# Altium footprint library bluetooth1.PcbLib: 1 footprints
Each footprint in its own frame and in the unit in brackets; x right, y up, seen from the top. Pads: shape width x height; smd on the part's side, far side on the other; paste and mask are expansions set on the pad; w line width, h text height; cw(c..) or ccw(c..) is an arc to the next point about the centre after c.
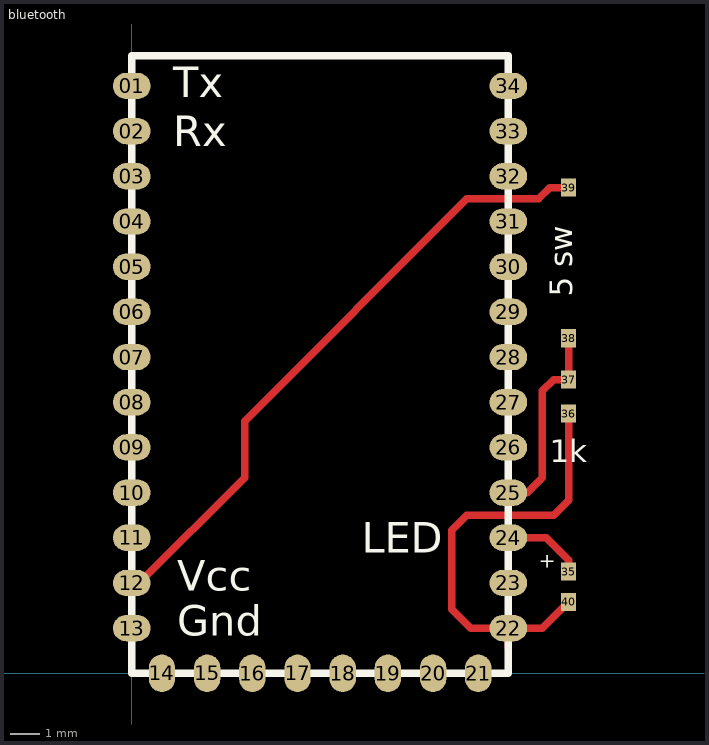
[diagram p0: the footprint, top view; thin cyan lines are the x and y axes]

## bluetooth [mil]
pads (40):
  oval 50x35 smd: 01(0,780) 02(0,720) 03(0,660) 04(0,600) 05(0,540) 06(0,480) 07(0,420) 08(0,360) 09(0,300) 10(0,240) 11(0,180) 12(0,120) 13(0,60) 22(500,60) 23(500,120) 24(500,180) 25(500,240) 26(500,300) 27(500,360) 28(500,420) 29(500,480) 30(500,540) 31(500,600) 32(500,660) 33(500,720) 34(500,780)
  oval 35x50 smd: 14(40,0) 15(100,0) 16(160,0) 17(220,0) 18(280,0) 19(340,0) 20(400,0) 21(460,0)
  rect 20x24 smd: 35(580,135) 36(580,345) 37(580,390) 38(580,445) 39(580,645) 40(580,95)
Top Layer:
  lines w10: 10,120 150,260 150,335 445,630 520,630 540,630 555,645 580,645 ; 500,35 500,60 ; 500,240 525,240 545,260 545,375 560,390 580,390 580,445 ; 520,180 500,180 550,180 580,150 580,135 ; 580,95 545,60 500,60 ; 580,345 580,230 560,210 445,210 425,190 425,85 450,60 500,60
Top Overlay:
  lines w10: 0,0 500,0 500,820 0,820 0,0
  text "5 sw" at 585,500 h30
  text "1k" at 555,280 h30
  text "+" at 540,140 h20
  text "LED" at 305,160 h40
  text "Tx" at 55,765 h40
  text "Rx" at 55,700 h40
  text "Vcc" at 60,110 h40
  text "Gnd" at 60,50 h40